# Altium footprint library IC_SMD_QUAD.PCBLIB: 135 footprints (part 9 of 9)
Each footprint in its own frame and in the unit in brackets; x right, y up, seen from the top. Pads: shape width x height; smd on the part's side, far side on the other; paste and mask are expansions set on the pad; w line width, h text height; cw(c..) or ccw(c..) is an arc to the next point about the centre after c.
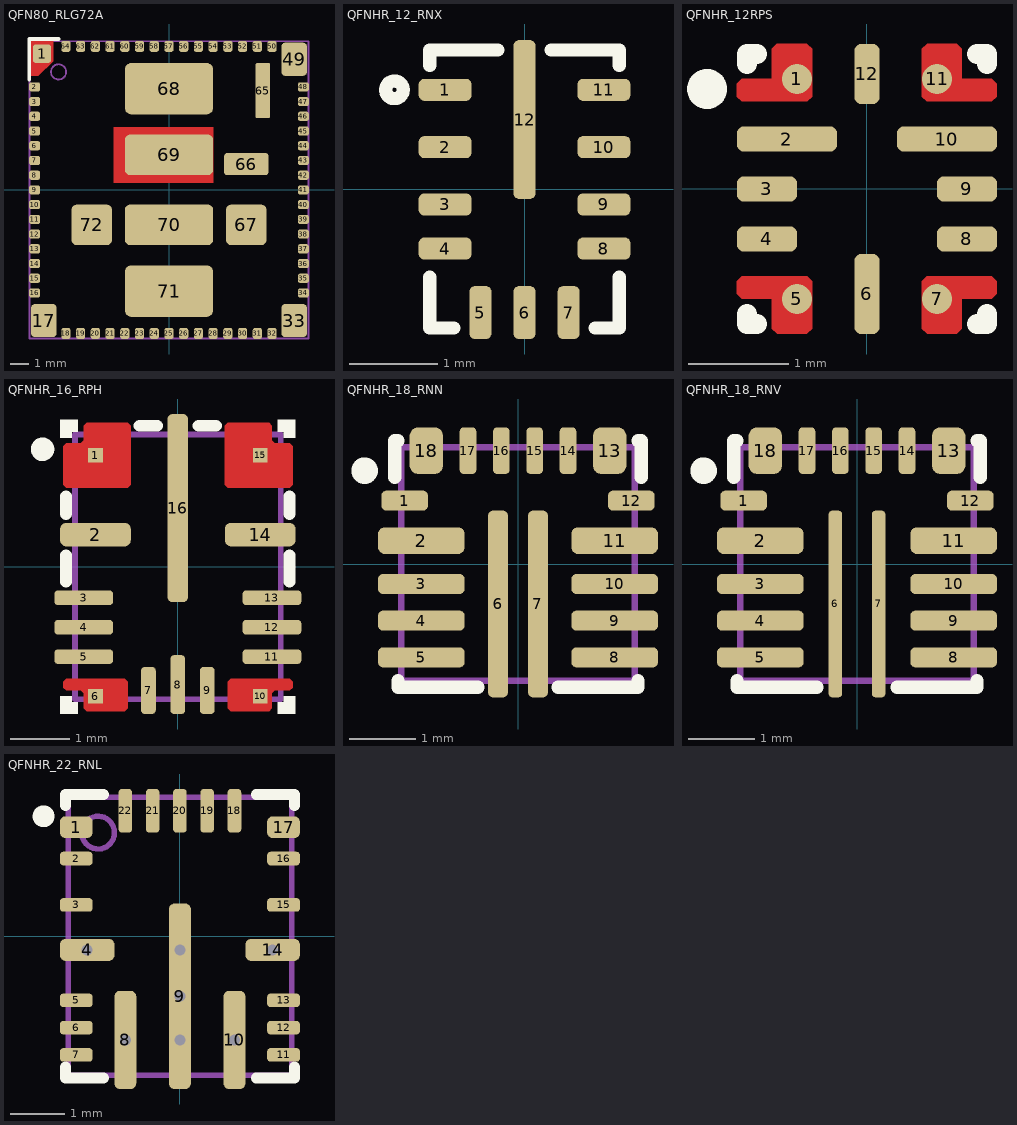
[diagram p8: the footprints below, top view; thin cyan lines are the x and y axes]

## QFN80_RLG72A [mm] "RLG-72, 0.8mm pitch, 15X16mm"
pads (72):
  rrect30% 1x1 smd paste-0.5 mask+0.051: 1(-6.9,7.4)
  rrect50% 0.6x0.5 smd paste+0 mask+0.075: 2(-7.3,5.6) 3(-7.3,4.8) 4(-7.3,4) 5(-7.3,3.2) 6(-7.3,2.4) 7(-7.3,1.6) 8(-7.3,0.8) 9(-7.3,0) 10(-7.3,-0.8) 11(-7.3,-1.6) 12(-7.3,-2.4) 13(-7.3,-3.2) 14(-7.3,-4) 15(-7.3,-4.8) 16(-7.3,-5.6) 34(7.3,-5.6) 35(7.3,-4.8) 36(7.3,-4) 37(7.3,-3.2) 38(7.3,-2.4) 39(7.3,-1.6) 40(7.3,-0.8) 41(7.3,0) 42(7.3,0.8) 43(7.3,1.6) 44(7.3,2.4) 45(7.3,3.2) 46(7.3,4) 47(7.3,4.8) 48(7.3,5.6)
  rrect30% 1.4x1.8 smd paste-0.2 mask+0.075: 17(-6.8,-7.1) 33(6.8,-7.1) 49(6.8,7.1)
  rrect50% 0.5x0.6 smd paste+0 mask+0.075: 18(-5.602,-7.8) 19(-4.802,-7.8) 20(-4.002,-7.8) 21(-3.202,-7.8) 22(-2.402,-7.8) 23(-1.602,-7.8) 24(-0.802,-7.8) 25(-0.002,-7.8) 26(0.798,-7.8) 27(1.598,-7.8) 28(2.398,-7.8) 29(3.198,-7.8) 30(3.998,-7.8) 31(4.798,-7.8) 32(5.598,-7.8) 50(5.598,7.8) 51(4.798,7.8) 52(3.998,7.8) 53(3.198,7.8) 54(2.398,7.8) 55(1.598,7.8) 56(0.798,7.8) 57(-0.002,7.8) 58(-0.802,7.8) 59(-1.602,7.8) 60(-2.402,7.8) 61(-3.202,7.8) 62(-4.002,7.8) 63(-4.802,7.8) 64(-5.602,7.8)
  rrect25% 0.8x3 smd paste-1 mask+0.075: 65(5.1,5.4)
  rrect25% 2.4x1.2 smd paste-2 mask+0.075: 66(4.2,1.4)
  rrect25% 2.2x2.2 smd paste-2 mask+0.075: 67(4.2,-1.9) 72(-4.2,-1.9)
  rrect25% 4.8x2.8 smd paste-3 mask+0.075: 68(0,5.5) 71(0,-5.5)
  rrect25% 4.8x2.2 smd paste-1.2 mask+0: 69(0,1.9)
  rrect25% 4.8x2.2 smd paste-2 mask+0.051: 70(0,-1.9)
TopLayer:
  region: -6.3,8.1 -7.5,8.1 -7.5,6.2 -7.1,6.2 -6.3,7
  region: -3,3.4 -3,0.4 2.398,0.4 2.398,3.4
TopOverlay:
  lines w0.2: -7.6,6 -7.6,8.2 -6,8.2
TopPaste:
  region: -7.5,6.6 -6.7,6.6 -7.08,6.22 -7.5,6.22
  region: -4.3,-2 -5.3,-2 -5.3,-3 -4.3,-3
  region: -4.1,-2 -3.1,-2 -3.1,-3 -4.1,-3
  region: -4.1,-1.8 -3.1,-1.8 -3.1,-0.8 -4.1,-0.8
  region: -4.3,-1.8 -5.3,-1.8 -5.3,-0.8 -4.3,-0.8
  region: -0.1,-5.6 -2.3,-5.6 -2.3,-6.8 -0.1,-6.8
  region: 0.1,-5.6 2.3,-5.6 2.3,-6.8 0.1,-6.8
  region: 0.1,-5.4 2.3,-5.4 2.3,-4.2 0.1,-4.2
  region: -0.1,-5.4 -2.3,-5.4 -2.3,-4.2 -0.1,-4.2
  region: -0.1,-2 -2.3,-2 -2.3,-3 -0.1,-3
  region: 0.1,-2 2.3,-2 2.3,-3 0.1,-3
  region: 0.1,-1.8 2.3,-1.8 2.3,-0.8 0.1,-0.8
  region: -0.1,-1.8 -2.3,-1.8 -2.3,-0.8 -0.1,-0.8
  region: -0.1,5.4 -2.3,5.4 -2.3,4.2 -0.1,4.2
  region: 0.1,5.4 2.3,5.4 2.3,4.2 0.1,4.2
  region: 0.1,5.6 2.3,5.6 2.3,6.8 0.1,6.8
  region: -7.4,7.3 -6.4,7.3 -6.4,6.9 -6.5,6.8 -7.4,6.8
  region: -7.4,8.1 -6.4,8.1 -6.4,7.5 -7.4,7.5
  region: -0.1,5.6 -2.3,5.6 -2.3,6.8 -0.1,6.8
  region: -0.1,2 -2.3,2 -2.3,3.2 -0.1,3.2
  region: 0.1,2 2.3,2 2.3,3.2 0.1,3.2
  region: 0.1,1.8 2.3,1.8 2.3,0.6 0.1,0.6
  region: -0.1,1.8 -2.3,1.8 -2.3,0.6 -0.1,0.6
  region: 4.1,-1.8 3.1,-1.8 3.1,-0.8 4.1,-0.8
  region: 4.3,-1.8 5.3,-1.8 5.3,-0.8 4.3,-0.8
  region: 4.3,-2 5.3,-2 5.3,-3 4.3,-3
  region: 4.1,-2 3.1,-2 3.1,-3 4.1,-3
  region: 4.1,0.8 3,0.8 3,1.3 4.1,1.3
  region: 4.3,0.8 5.4,0.8 5.4,1.3 4.3,1.3
  region: 4.3,2 5.4,2 5.4,1.5 4.3,1.5
  region: 4.1,2 3,2 3,1.5 4.1,1.5
  region: 4.7,5.3 4.7,3.9 5.5,3.9 5.5,5.3
  region: 4.7,5.5 4.7,6.9 5.5,6.9 5.5,5.5
Mechanical13:
  circle w0.1: c-6,6.412 r0.412
  lines w0.1: -7.575,-8.075 7.575,-8.075 7.575,8.075 -7.575,8.075 -7.575,-8.075
3D body "LMZ31530_RLG0072A.stp": height 5.9, standoff 0, extent -7.5,-8 7.5,8
3D body: height 0.25, standoff 0, extent 0,0 0.254,0.254

## QFNHR_12_RNX [mm] "VQFN-HR12, RNX, 2X3X1mm, RNX0012B"
pads (12):
  rrect50% 0.6x0.25 smd paste+0 mask+0.05: 1(-0.9,1.125) 2(-0.9,0.475) 3(-0.9,-0.175) 4(-0.9,-0.675) 8(0.9,-0.675) 9(0.9,-0.175) 10(0.9,0.475) 11(0.9,1.125)
  rrect50% 0.25x0.6 smd paste+0 mask+0.05: 5(-0.5,-1.4) 6(0,-1.4) 7(0.5,-1.4)
  rrect50% 0.25x1.8 smd paste-0.9 mask+0.05: 12(0,0.788)
TopOverlay:
  circle w0.15: c-1.475,1.125 r0.1
  lines w0.15: -1.075,-1 -1.075,-1.575 -0.8,-1.575 ; -1.075,1.4 -1.075,1.575 -0.3,1.575 ; 0.3,1.575 1.075,1.575 1.075,1.4 ; 0.8,-1.575 1.075,-1.575 1.075,-1
TopPaste:
  region: -0.124,-0.086 -0.125,-0.076 -0.125,0.636 -0.124,0.646 -0.121,0.655 -0.117,0.664 -0.11,0.671 -0.103,0.678 -0.094,0.682 -0.085,0.685 -0.075,0.686 0.075,0.686 0.085,0.685 0.094,0.682 0.103,0.678 0.11,0.671 0.117,0.664 0.121,0.655 0.124,0.646 0.125,0.636 0.125,-0.076 0.124,-0.086 0.121,-0.095 0.117,-0.104 0.11,-0.111 0.103,-0.118 0.094,-0.122 0.085,-0.125 0.075,-0.126 -0.075,-0.126 -0.085,-0.125 -0.094,-0.122 -0.103,-0.118 -0.11,-0.111 -0.117,-0.104 -0.121,-0.095
  region: -0.124,0.929 -0.125,0.939 -0.125,1.651 -0.124,1.661 -0.121,1.67 -0.117,1.679 -0.11,1.686 -0.103,1.693 -0.094,1.697 -0.085,1.7 -0.075,1.701 0.075,1.701 0.085,1.7 0.094,1.697 0.103,1.693 0.11,1.686 0.117,1.679 0.121,1.67 0.124,1.661 0.125,1.651 0.125,0.939 0.124,0.929 0.121,0.92 0.117,0.911 0.11,0.904 0.103,0.897 0.094,0.893 0.085,0.89 0.075,0.889 -0.075,0.889 -0.085,0.89 -0.094,0.893 -0.103,0.897 -0.11,0.904 -0.117,0.911 -0.121,0.92
3D body "RNX0012C.stp": height 1, standoff 0, extent -1,-1.5 1,1.5

## QFNHR_12RPS [mm] "VQFN-HR RPS, 2.2X2.5X1mm"
height 1
pads (12):
  round 0.3 smd paste+0 mask+0: 1(-0.7,1.1) 5(-0.7,-1.1) 7(0.7,-1.1) 11(0.7,1.1)
  rrect50% 1x0.25 smd paste+0 mask+0.05: 2(-0.8,0.5) 10(0.8,0.5)
  rrect50% 0.6x0.25 smd paste+0 mask+0.05: 3(-1,0) 4(-1,-0.5) 8(1,-0.5) 9(1,0)
  rrect50% 0.25x0.8 smd paste+0 mask+0.05: 6(0,-1.05)
  rrect50% 0.25x0.6 smd paste+0 mask+0.05: 12(0,1.15)
TopLayer:
  region: 1.3,1.05 1.25,1.1 0.95,1.1 0.95,1.4 0.9,1.45 0.6,1.45 0.55,1.4 0.55,0.925 0.6,0.875 1.25,0.875 1.3,0.925
  region: 1.3,-1.05 1.25,-1.1 0.95,-1.1 0.95,-1.4 0.9,-1.45 0.6,-1.45 0.55,-1.4 0.55,-0.925 0.6,-0.875 1.25,-0.875 1.3,-0.925
  region: -1.3,-1.05 -1.25,-1.1 -0.95,-1.1 -0.95,-1.4 -0.9,-1.45 -0.6,-1.45 -0.55,-1.4 -0.55,-0.925 -0.6,-0.875 -1.25,-0.875 -1.3,-0.925
  region: -1.3,1.05 -1.25,1.1 -0.95,1.1 -0.95,1.4 -0.9,1.45 -0.6,1.45 -0.55,1.4 -0.55,0.925 -0.6,0.875 -1.25,0.875 -1.3,0.925
TopOverlay:
  circle w0.2: c-1.6,1 r0.1
  lines w0.2: -1.2,-1.25 -1.2,-1.35 -1.1,-1.35 ; -1.2,1.25 -1.2,1.35 -1.1,1.35 ; 1.1,-1.35 1.2,-1.35 1.2,-1.25 ; 1.1,1.35 1.2,1.35 1.2,1.25
3D body "RPS0012A.stp": height 1, standoff 0, extent -1.1,-1.25 1.1,1.25

## QFNHR_16_RPH [mm] "VQFN-HR16, RPH, 4.5x3.5x1.0mm"
height 1
pads (16):
  rect 0.25x0.25 smd paste-0.125 mask+0.05: 1(-1.4,1.9) 6(-1.4,-2.2) 10(1.4,-2.2) 15(1.4,1.9)
  rrect50% 1.2x0.4 smd paste-0.048 mask+0.05: 2(-1.4,0.55) 14(1.4,0.55)
  rrect50% 1x0.25 smd paste-0.025 mask+0.05: 3(-1.6,-0.525) 4(-1.6,-1.025) 5(-1.6,-1.525) 11(1.6,-1.525) 12(1.6,-1.025) 13(1.6,-0.525)
  rrect50% 0.25x0.8 smd paste-0.025 mask+0.05: 7(-0.5,-2.1) 9(0.5,-2.1)
  rrect50% 0.25x1 smd paste-0.025 mask+0.05: 8(0,-2)
  rrect50% 0.35x3.2 smd paste-0.175 mask+0.051: 16(0,1)
TopLayer:
  region: 1.9,1.35 1.95,1.4 1.95,2.05 1.9,2.1 1.65,2.1 1.6,2.15 1.6,2.4 1.55,2.45 0.85,2.45 0.8,2.4 0.8,1.4 0.85,1.35
  region: -1.9,1.35 -1.95,1.4 -1.95,2.05 -1.9,2.1 -1.65,2.1 -1.6,2.15 -1.6,2.4 -1.55,2.45 -0.85,2.45 -0.8,2.4 -0.8,1.4 -0.85,1.35
  region: -1.95,-1.95 -1.95,-2.05 -1.9,-2.1 -1.65,-2.1 -1.6,-2.15 -1.6,-2.4 -1.55,-2.45 -0.9,-2.45 -0.85,-2.4 -0.85,-1.95 -0.9,-1.9 -1.9,-1.9
  region: 1.95,-1.95 1.95,-2.05 1.9,-2.1 1.65,-2.1 1.6,-2.15 1.6,-2.4 1.55,-2.45 0.9,-2.45 0.85,-2.4 0.85,-1.95 0.9,-1.9 1.9,-1.9
TopOverlay:
  circle w0.2: c-2.3,2 r0.1
  region: -1.8,2.2 -2,2.2 -2,2.5 -1.7,2.5 -1.7,2.3 -1.8,2.3
  region: 1.8,2.2 2,2.2 2,2.5 1.7,2.5 1.7,2.3 1.8,2.3
  region: 1.8,-2.2 2,-2.2 2,-2.5 1.7,-2.5 1.7,-2.3 1.8,-2.3
  region: -1.8,-2.2 -2,-2.2 -2,-2.5 -1.7,-2.5 -1.7,-2.3 -1.8,-2.3
  lines w0.2: -1.9,-0.25 -1.9,0.2 ; -1.9,0.9 -1.9,1.2 ; -0.65,2.4 -0.35,2.4 ; 0.35,2.4 0.65,2.4 ; 1.9,-0.25 1.9,0.2 ; 1.9,0.9 1.9,1.2
TopPaste:
  region: -0.15,-0.45 0.15,-0.45 0.15,0.35 -0.15,0.35
  region: -0.15,0.55 0.15,0.55 0.15,1.35 -0.15,1.35
  region: -0.15,1.55 0.15,1.55 0.15,2.35 -0.15,2.35
  region: -1.2,2.4 -1.2,2 -0.9,2 -0.9,2.4
  region: -1.9,1.4 -1.5,1.4 -1.5,1.7 -1.9,1.7
  region: -1.3,1.4 -0.9,1.4 -0.9,1.8 -1.3,1.8
  region: -1.4,2.4 -1.6,2.4 -1.6,2.1 -1.9,2.1 -1.9,1.9 -1.4,1.9
  region: 1.2,2.4 1.2,2 0.9,2 0.9,2.4
  region: 1.9,1.4 1.5,1.4 1.5,1.7 1.9,1.7
  region: 1.3,1.4 0.9,1.4 0.9,1.8 1.3,1.8
  region: 1.4,2.4 1.6,2.4 1.6,2.1 1.9,2.1 1.9,1.9 1.4,1.9
Mechanical13:
  circle w0.1: c-1.2,1.7 r0.3
  lines w0.1: -1.75,-2.25 1.75,-2.25 1.75,2.25 -1.75,2.25 -1.75,-2.25
3D body "RPH0016B.stp": height 1, standoff 0, extent -1.75,-2.25 1.75,2.25

## QFNHR_18_RNN [mm] "VQFNHR-18, RNN, 3.5x3.5x"
height 1
pads (18):
  rrect50% 0.7x0.3 smd mask+0.05: 1(-1.7,0.95) 12(1.7,0.95)
  rrect50% 1.3x0.4 smd mask+0.05: 2(-1.45,0.35) 11(1.45,0.35)
  rrect50% 1.3x0.3 smd mask+0.05: 3(-1.45,-0.3) 4(-1.45,-0.85) 5(-1.45,-1.4) 8(1.45,-1.4) 9(1.45,-0.85) 10(1.45,-0.3)
  rrect50% 0.3x2.8 smd mask+0.05: 6(-0.3,-0.6) 7(0.3,-0.6)
  rrect50% 0.5x0.7 smd mask+0.05: 13(1.375,1.7) 18(-1.375,1.7)
  rrect50% 0.25x0.7 smd mask+0.05: 14(0.75,1.7) 15(0.25,1.7) 16(-0.25,1.7) 17(-0.75,1.7)
TopOverlay:
  circle w0.2: c-2.3,1.4 r0.1
  lines w0.2: -1.85,1.3 -1.85,1.85 -1.8,1.85 ; -1.8,-1.75 -1.8,-1.85 -0.6,-1.85 ; 0.6,-1.85 1.8,-1.85 1.8,-1.75 ; 1.8,1.85 1.85,1.85 1.85,1.3
Mechanical13:
  lines w0.1: -1.75,-1.75 1.75,-1.75 1.75,1.75 -1.75,1.75 -1.75,-1.75
3D body "RNN0018A.stp": height 1, standoff 0, extent -1.75,-1.75 1.75,1.75

## QFNHR_18_RNV [mm] "VQFNHR-18, RNV, 3.5x3.5x"
height 1
pads (18):
  rrect50% 0.7x0.3 smd mask+0.05: 1(-1.7,0.95) 12(1.7,0.95)
  rrect50% 1.3x0.4 smd mask+0.05: 2(-1.45,0.35) 11(1.45,0.35)
  rrect50% 1.3x0.3 smd mask+0.05: 3(-1.45,-0.3) 4(-1.45,-0.85) 5(-1.45,-1.4) 8(1.45,-1.4) 9(1.45,-0.85) 10(1.45,-0.3)
  rrect50% 0.2x2.8 smd mask+0.05: 6(-0.325,-0.6) 7(0.325,-0.6)
  rrect50% 0.5x0.7 smd mask+0.05: 13(1.375,1.7) 18(-1.375,1.7)
  rrect50% 0.25x0.7 smd mask+0.05: 14(0.75,1.7) 15(0.25,1.7) 16(-0.25,1.7) 17(-0.75,1.7)
TopOverlay:
  circle w0.2: c-2.3,1.4 r0.1
  lines w0.2: -1.85,1.3 -1.85,1.85 -1.8,1.85 ; -1.8,-1.75 -1.8,-1.85 -0.6,-1.85 ; 0.6,-1.85 1.8,-1.85 1.8,-1.75 ; 1.8,1.85 1.85,1.85 1.85,1.3
Mechanical13:
  lines w0.1: -1.75,-1.75 1.75,-1.75 1.75,1.75 -1.75,1.75 -1.75,-1.75
3D body "TPS54424RNVR.stp": height 1, standoff 0, extent -1.75,-1.75 1.75,1.75

## QFNHR_22_RNL [mm] "VQFN-HR22, RNL, 5X4X0.9mm"
height 0.9
pads (22):
  rrect50% 0.6x0.4 smd paste+0 mask+0.075: 1(-1.9,2) 17(1.9,2)
  rrect50% 0.6x0.25 smd paste+0 mask+0.075: 2(-1.9,1.425) 3(-1.9,0.575) 5(-1.9,-1.175) 6(-1.9,-1.675) 7(-1.9,-2.175) 11(1.9,-2.175) 12(1.9,-1.675) 13(1.9,-1.175) 15(1.9,0.575) 16(1.9,1.425)
  rrect50% 1x0.4 smd paste-0.5 mask+0.075: 4(-1.7,-0.25) 14(1.7,-0.25)
  rrect50% 0.4x1.8 smd paste-0.812 mask+0.075: 8(-1,-1.9) 10(1,-1.9)
  rrect50% 0.4x3.4 smd paste-1.562 mask+0.075: 9(0,-1.1)
  rrect50% 0.25x0.8 smd paste+0 mask+0.075: 18(1,2.3) 19(0.5,2.3) 20(0,2.3) 21(-0.5,2.3) 22(-1,2.3)
via 0,-1.1 diameter 0.4 hole 0.2
via 0,-0.25 diameter 0.4 hole 0.2
via 0,-1.9 diameter 0.4 hole 0.2
via 1,-1.9 diameter 0.4 hole 0.2
via -1,-1.9 diameter 0.4 hole 0.2
via -1.7,-0.25 diameter 0.4 hole 0.2
via 1.7,-0.25 diameter 0.4 hole 0.2
TopOverlay:
  circle w0.2: c-2.5,2.2 r0.1
  lines w0.2: -2.1,-2.4 -2.1,-2.6 -1.4,-2.6 ; -2.1,2.4 -2.1,2.6 -1.4,2.6 ; 1.4,-2.6 2.1,-2.6 2.1,-2.4 ; 1.4,2.6 2.1,2.6 2.1,2.4
TopPaste:
  drawing of 12 lines, arcs and shapes, not listed
Mechanical13:
  circle w0.1: c-1.5,1.9 r0.3
  lines w0.1: -2.05,-2.55 2.05,-2.55 2.05,2.55 -2.05,2.55 -2.05,-2.55
3D body "RNL0022A.stp": height 0.9, standoff 0, extent -2,-2.5 2,2.5